# Altium schematic symbol library isolationScaleSMD_1.SCHLIB: 29 symbols
Pins are listed as number, name and electrical type; pins without a type are passive.

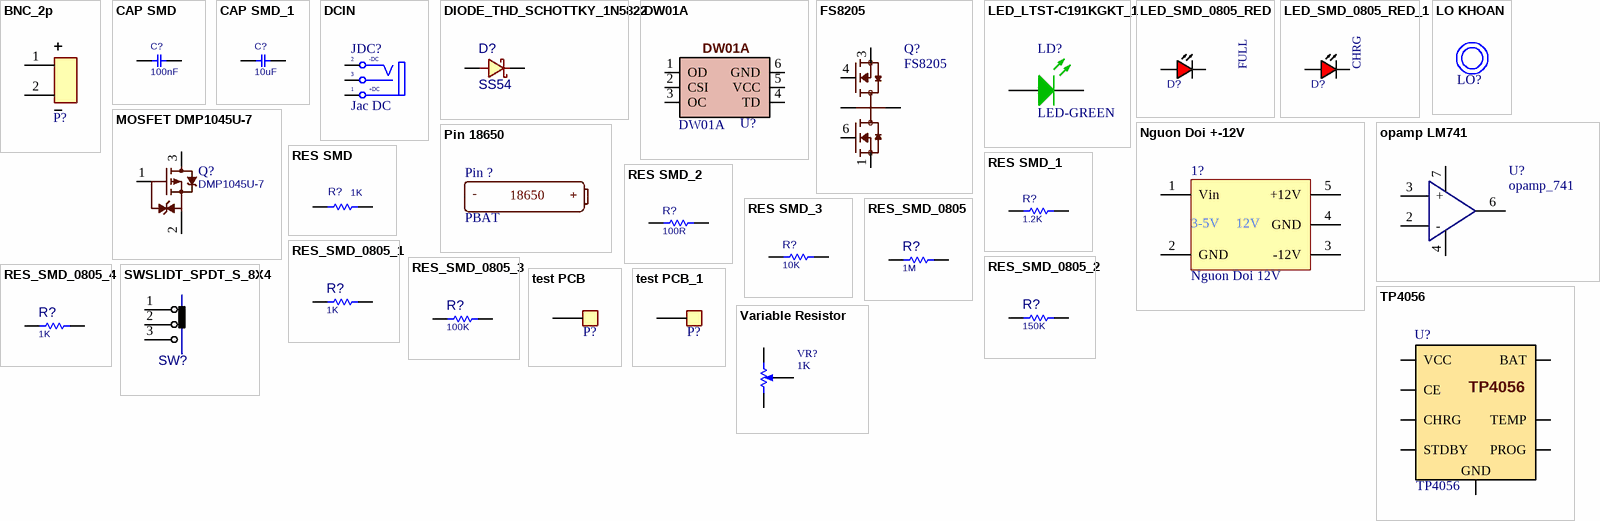
[diagram p0: symbols BNC_2p to Variable Resistor]

## BNC_2p
designator P?  (value not drawn)
footprint BNC_2p
footprint BNC Jack
pins: 1 (power), 2 (power)

## CAP SMD
designator C?, comment 100nF
CAP SMD; PARAM: -, -%; MANF_P#: MANF_PART#; PARAM2: -V; PRICE: 100= 1$; MANF: -; ASSEMBLY: ASSEMBLY; VALUE: 100nF
footprint cap_0805 (CHIP Capacitor, 2.0X1.3mm, 0805)
footprint C_PLY_9X6 (CAP, POLYESTER, 9.3X5.2mm pitch: 7.6mm)
footprint cap_0603
footprint cap_0402
pins: 1, 2

## CAP SMD_1
designator C?, comment 10uF
CAP SMD; PARAM: -, -%; MANF_P#: MANF_PART#; PARAM2: -V; PRICE: 100= 1$; MANF: -; ASSEMBLY: ASSEMBLY; VALUE: 10uF
footprint cap_0805 (CHIP Capacitor, 2.0X1.3mm, 0805)
footprint C_PLY_9X6 (CAP, POLYESTER, 9.3X5.2mm pitch: 7.6mm)
footprint cap_0603
footprint cap_0402
pins: 1, 2

## DCIN
designator JDC?, comment Jac DC
Jac DC input; Value: Jac DC
footprint DC-IN (Jac DC input)
pins: 1 T "Tip", 2 TN "Tip Normal (Break Contact)", 3 S (power) "Sleeve (Ground)"
text: -DC; +DC

## DIODE_THD_SCHOTTKY_1N5822
designator D?, comment SS54
DIODE, SCHOTTKY, 40V, 3A; MANF: Diodes; MANF_P#: 1N5822; DESC: DESCRIPTION; ASSEMBLY: ASSEMBLY; PRICE: PRICE; PARAM2: 3A; PARAM: 40V; VALUE: SS54
footprint D_SMB (SMB Molded Diode, 2-Leads, Body 4.3x3.5mm)
footprint D_SMA (SMA Molded Diode, 2-Leads, Body 4.3x2.7mm, SOD-128)
footprint SS34
pins: 1 A, 2 K

## DW01A
designator U?
footprint SOT23-6
pins: 1 OD, 2 CSI, 3 OC, 4 TD, 5 VCC, 6 GND

## FS8205
designator Q?
Dual N-Channel Enhancement Mode Power MOSFET; MF: Fortune Semiconductor; SnapEDA_Link: https://www.snapeda.com/parts/FS8205/Fortune+Semiconductor/view-part/?ref=snap; Package: Package; MP: FS8205; Check_prices: https://www.snapeda.com/parts/FS8205/Fortune+Semiconductor/view-part/?ref=eda; Price: None; Value: *; Availability: Not in stock
footprint SOT23-6
pins: 1 S1, 2 D12, 2 D12, 3 S2, 4 G2, 5 D12, 6 G1

## LED_LTST-C191KGKT_1
designator LD?, comment LED-GREEN
LED GREEN CLEAR 0603 SMD; Manufacturer 1: Lite-On Inc.; Manufacturer Part Number 1: LTST-C191KGKT; Category 1: Optoelectronics; Lens Color: Colorless; Millicandela Rating: 35mcd; Lens Style/Size: Rectangle with Flat Top, 1.10mm x 0.80mm; Voltage - Forward (Vf) (Typ): 2V; Current - Test: 20mA; Viewing Angle: 130°; Wavelength - Dominant: 571nm; Wavelength - Peak: 574nm; Supplier 1: Digi-Key; Supplier Part Number 1: 160-1446-1-ND; RoHS 1: RoHS Compliant; Description 1: LED GREEN CLEAR 0603 SMD; Stock 1: 1325167; Pricing 1: 1=0.29, 10=0.211, 25=0.1556, 100=0.1111, 250=0.07556, 500=0.06666, 1000=0.05222, 2500=0.05111 (USD); Packaging: Cut Tape (CT); Part Status: Active; Color: Green; Lens Transparency: Clear; Mounting Type: Surface Mount; Features: -; Size / Dimension: 1.60mm L x 0.80mm W; Height (Max): 0.55mm; ComponentLink1URL: http://optoelectronics.liteon.com/upload/download/DS22-2000-228/S_110_LTST-C191KGKT.pdf; ComponentLink1Description: http://optoelectronics.liteon.com/upload/download/DS22-2000-228/S_110_LTST-C191KGKT.pdf; Package / Case: 0603 (1608 Metric)
footprint LED RED 0805
pins: 1 A, 2 K

## LED_SMD_0805_RED
designator D?, comment FULL
LED, SMD, 0805, RED; DESC: DESCRIPTION; MANF_P#: MANF_PART#; PARAM2: 2.2V; MANF: MANF; ASSEMBLY: ASSEMBLY; PRICE: 36t@Javan
footprint LED0805RED (LED SMD 0805, RED)
pins: 1 ANODE, 2 CATHODE

## LED_SMD_0805_RED_1
designator D?, comment CHRG
LED, SMD, 0805, RED; DESC: DESCRIPTION; MANF_P#: MANF_PART#; PARAM2: 2.2V; MANF: MANF; ASSEMBLY: ASSEMBLY; PRICE: 36t@Javan
footprint LED0805RED (LED SMD 0805, RED)
pins: 1 ANODE, 2 CATHODE

## LO KHOAN
designator LO?  (value not drawn)
footprint SCMH_M3P5FT (SCREW mouting, M3.5, 3.5mm diameter and 7.0mm, FlatHead)

## MOSFET DMP1045U-7
designator Q?, comment DMP1045U-7
MOSFET DMP1045U-7 P Channel; MANF_P#: IRF5305; ASSEMBLY: ASSEMBLY; VALUE: DMP1045U-7
footprint SOT91P240X110-3N
pins: 1 G, 2 S, 3 D

## Nguon Doi +-12V
designator 1?, comment Nguon Doi 12V
Nguon Doi +-12V
footprint 5V_+-12V
footprint 5V_+-12V
pins: 1 Vin, 2 GND, 3 -12V, 4 GND, 5 +12V
text: 3-5V; 12V

## opamp LM741
designator U?, comment opamp_741
footprint DIP-8_2.54_8_t/h
pins: 2 -, 3 +, 4 GND, 6 OUT, 7 VCC

## Pin 18650
designator Pin ?, comment PBAT
Pin 18650
footprint Pin 18650 1 cell
pins: 1 Bat+, 2 Bat-
text: -; 18650; +

## RES SMD
designator R?, comment 1K
RES SMD; MANF_P#: WSLP0805R0100FEA; MANF: VISHAY; PARAM: 0.5W, -55~155oC; DESC: DESCRIPTION; DIST#: MOUSER; PARAM2: 1%; ASSEMBLY: ASSEMBLY; PRICE: 0.5$; VALUE: 1K
footprint R0805 (CHIP RESISTOR 1/8 WATT ,2.0X1.3mm, 0805, 2012)
footprint RES_0402
footprint R0603 (CHIP RESISTOR 1/8 WATT ,2.0X1.3mm, 0805, 2012)
footprint R2512 (CHIP RESISTOR 1WATT 2512)
footprint R1206 (0.25W 1/4W)
pins: 1, 2

## RES SMD_1
designator R?, comment 1.2K
RES SMD; MANF_P#: WSLP0805R0100FEA; MANF: VISHAY; PARAM: 0.5W, -55~155oC; DESC: DESCRIPTION; DIST#: MOUSER; PARAM2: 1%; ASSEMBLY: ASSEMBLY; PRICE: 0.5$; VALUE: 1.2K
footprint R0805 (CHIP RESISTOR 1/8 WATT ,2.0X1.3mm, 0805, 2012)
footprint RES_0402
footprint R0603 (CHIP RESISTOR 1/8 WATT ,2.0X1.3mm, 0805, 2012)
footprint R2512 (CHIP RESISTOR 1WATT 2512)
footprint R1206 (0.25W 1/4W)
pins: 1, 2

## RES SMD_2
designator R?, comment 100R
RES SMD; MANF_P#: WSLP0805R0100FEA; MANF: VISHAY; PARAM: 0.5W, -55~155oC; DESC: DESCRIPTION; DIST#: MOUSER; PARAM2: 1%; ASSEMBLY: ASSEMBLY; PRICE: 0.5$; VALUE: 100R
footprint R0805 (CHIP RESISTOR 1/8 WATT ,2.0X1.3mm, 0805, 2012)
footprint RES_0402
footprint R0603 (CHIP RESISTOR 1/8 WATT ,2.0X1.3mm, 0805, 2012)
footprint R2512 (CHIP RESISTOR 1WATT 2512)
footprint R1206 (0.25W 1/4W)
pins: 1, 2

## RES SMD_3
designator R?, comment 10K
RES SMD; MANF_P#: WSLP0805R0100FEA; MANF: VISHAY; PARAM: 0.5W, -55~155oC; DESC: DESCRIPTION; DIST#: MOUSER; PARAM2: 1%; ASSEMBLY: ASSEMBLY; PRICE: 0.5$; VALUE: 10K
footprint R0805 (CHIP RESISTOR 1/8 WATT ,2.0X1.3mm, 0805, 2012)
footprint RES_0402
footprint R0603 (CHIP RESISTOR 1/8 WATT ,2.0X1.3mm, 0805, 2012)
footprint R2512 (CHIP RESISTOR 1WATT 2512)
footprint R1206 (0.25W 1/4W)
pins: 1, 2

## RES_SMD_0805
designator R?, comment 1M
RESISTOR, SMD, SENS, 0.01Ohm, 0.5W; MANF_P#: WSLP0805R0100FEA; MANF: VISHAY; PARAM: 0.5W, -55~155oC; DESC: DESCRIPTION; DIST#: MOUSER; PARAM2: 1%; ASSEMBLY: ASSEMBLY; PRICE: 0.5$; VALUE: 1M
footprint R0805 (CHIP RESISTOR 1/8 WATT ,2.0X1.3mm, 0805, 2012)
pins: 1, 2

## RES_SMD_0805_1
designator R?, comment 1K
RESISTOR, SMD, SENS, 0.01Ohm, 0.5W; MANF_P#: WSLP0805R0100FEA; MANF: VISHAY; PARAM: 0.5W, -55~155oC; DESC: DESCRIPTION; DIST#: MOUSER; PARAM2: 1%; ASSEMBLY: ASSEMBLY; PRICE: 0.5$; VALUE: 1K
footprint R0805 (CHIP RESISTOR 1/8 WATT ,2.0X1.3mm, 0805, 2012)
pins: 1, 2

## RES_SMD_0805_2
designator R?, comment 150K
RESISTOR, SMD, SENS, 0.01Ohm, 0.5W; MANF_P#: WSLP0805R0100FEA; MANF: VISHAY; PARAM: 0.5W, -55~155oC; DESC: DESCRIPTION; DIST#: MOUSER; PARAM2: 1%; ASSEMBLY: ASSEMBLY; PRICE: 0.5$; VALUE: 150K
footprint R0805 (CHIP RESISTOR 1/8 WATT ,2.0X1.3mm, 0805, 2012)
pins: 1, 2

## RES_SMD_0805_3
designator R?, comment 100K
RESISTOR, SMD, SENS, 0.01Ohm, 0.5W; MANF_P#: WSLP0805R0100FEA; MANF: VISHAY; PARAM: 0.5W, -55~155oC; DESC: DESCRIPTION; DIST#: MOUSER; PARAM2: 1%; ASSEMBLY: ASSEMBLY; PRICE: 0.5$; VALUE: 100K
footprint R0805 (CHIP RESISTOR 1/8 WATT ,2.0X1.3mm, 0805, 2012)
pins: 1, 2

## RES_SMD_0805_4
designator R?, comment 1K
RESISTOR, SMD, SENS, 0.01Ohm, 0.5W; MANF_P#: WSLP0805R0100FEA; MANF: VISHAY; PARAM: 0.5W, -55~155oC; DESC: DESCRIPTION; DIST#: MOUSER; PARAM2: 1%; ASSEMBLY: ASSEMBLY; PRICE: 0.5$; VALUE: 1K
footprint R0805 (CHIP RESISTOR 1/8 WATT ,2.0X1.3mm, 0805, 2012)
pins: 1, 2

## SWSLIDT_SPDT_S_8X4
designator SW?, comment SlideSwitch  (value not drawn)
SWITCH, SLIDE, SPDT, 8.6X4.3mm, THD; MANF_PART#: OS102011MS2QN1; MANF: C&K; DESC: DESCRIPTION; VALUE: SlideSwitch; ASSEMBLY: ASSEMBLY; PARAM: PARAM; PRICE: 0.4$
footprint SWSLIDT_SPDT_S_8X4 (Switch, Slide, SPDT, Straight, THD, 8.6X4.3mm)
pins: 1 P1, 2 P3, 3 P4

## test PCB
designator P?  (value not drawn)
testpin
footprint Tp_black_1p
footprint Tp_blue_1p
footprint tp_red_1p
footprint tp_white_1p
footprint tp_yellow_1p
pins: 1 (power)

## test PCB_1
designator P?, comment test PCB  (value not drawn)
testpin
footprint Tp_black_1p
footprint Tp_blue_1p
footprint tp_red_1p
footprint tp_white_1p
footprint tp_yellow_1p
pins: 1 (power)

## TP4056
designator U?
footprint SOP-8127P600X175-9N
pins: 1 TEMP, 2 PROG, 3 FEEDBACK, 4 VCC, 5 BAT, 6 STDBY, 7 CHRG, 8 CE
text: GND

## Variable Resistor
designator VR?, comment 1K
Square Trimming Potentiometer; AEMS Code: 1400226
footprint VARIABLE RESISTOR_3362P
footprint variable resistor 10k
pins: 1, 2, 3
1 alternate drawing of the same symbol